# Altium footprint library tr_s6.PcbLib: 40 footprints (part 3 of 3)
Each footprint in its own frame and in the unit in brackets; x right, y up, seen from the top. Pads: shape width x height; smd on the part's side, far side on the other; paste and mask are expansions set on the pad; w line width, h text height; cw(c..) or ccw(c..) is an arc to the next point about the centre after c.
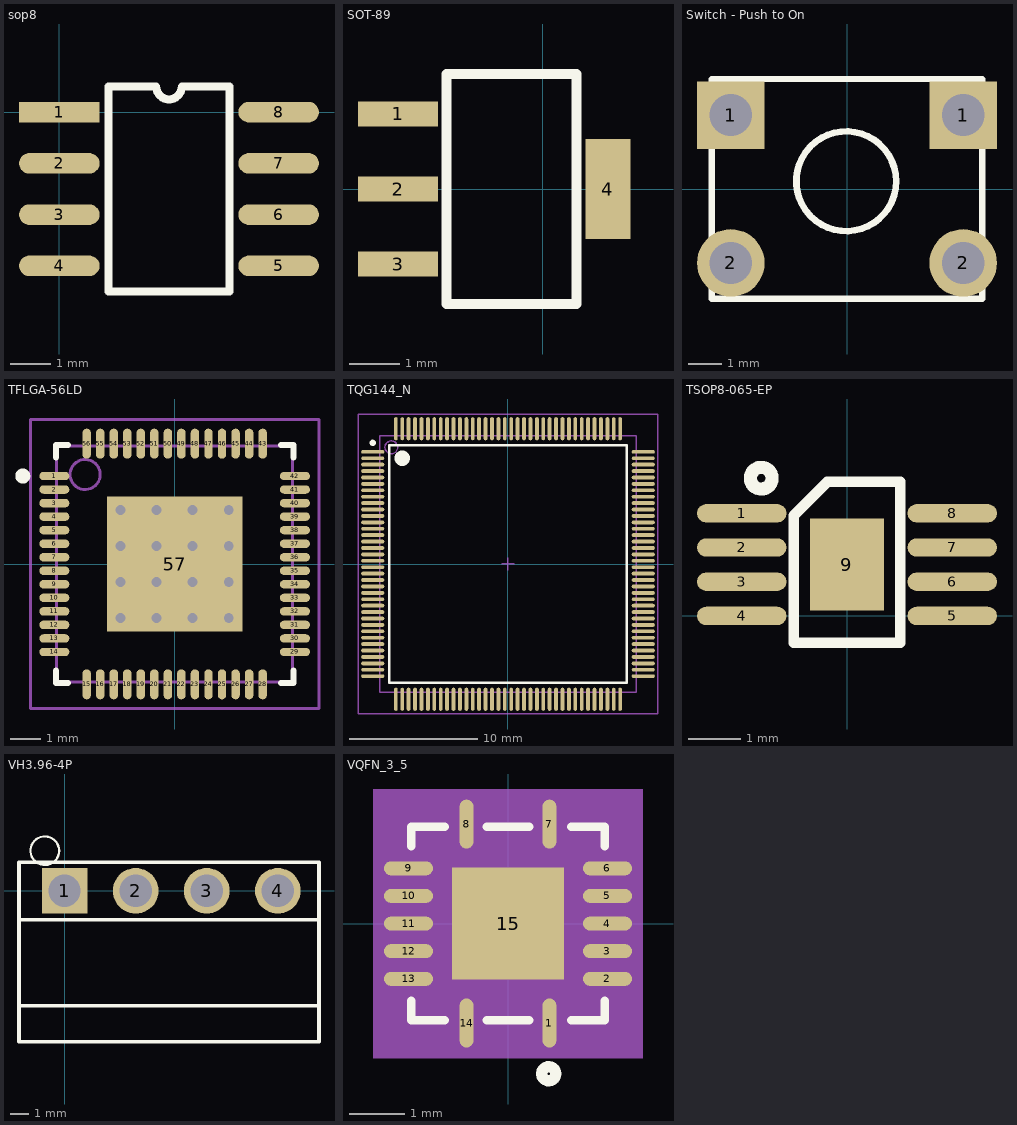
[diagram p2: the footprints below, top view; thin cyan lines are the x and y axes]

## sop8 [mm]
height 22
pads (8):
  rect 2x0.51 smd: 1(0,0)
  oval 2x0.51 smd: 2(0,-1.27) 3(0,-2.54) 4(0,-3.81) 5(5.44,-3.81) 6(5.44,-2.54) 7(5.44,-1.27) 8(5.44,0)
Top Overlay:
  lines w0.2: 1.215,-4.445 1.215,0.635 2.402,0.635 ccw(c2.72,0.635) 3.037,0.635 4.225,0.635 4.225,-4.445 1.215,-4.445

## SOT-89 [mm] "SOT-89,small package of SOT-23"
height 3
pads (4):
  rect 1.6x0.5 smd: 1(-2.889,1.5) 2(-2.889,0) 3(-2.889,-1.5)
  rect 0.9x2 smd: 4(1.3,0)
Top Overlay:
  lines w0.2: -1.924,-2.3 0.676,-2.3 0.676,2.3 -1.924,2.3 -1.924,-2.3

## Switch - Push to On [mil]
height 98.43
pads (4):
  rect 80x80 hole 50: 1(-137.5,87.5) 1(137.5,87.5)
  round 80 hole 50: 2(-137.5,-87.5) 2(137.5,-87.5)
Top Overlay:
  circle w7.87: c-0.89,9.15 r59.06
  lines w7: -160,130 160,130
  lines w7.87: -160,130 -160,-130 160,-130 160,130
3D body "SW3dPS-Touche DTS-6X_V2008.STEP": height 205.04, standoff -120.04, extent -154.9,-121.09 156.9,123

## TFLGA-56LD [mm] "QFN, 56-Leads, Body 7.8x7.8mm (max), Pitch 0.45mm, IPC Medium Density"
height 0.9
pads (57):
  oval 1x0.28 smd: 1(-4,2.925) 2(-4,2.475) 3(-4,2.025) 4(-4,1.575) 5(-4,1.125) 6(-4,0.675) 7(-4,0.225) 8(-4,-0.225) 9(-4,-0.675) 10(-4,-1.125) 11(-4,-1.575) 12(-4,-2.025) 13(-4,-2.475) 14(-4,-2.925) 29(4,-2.925) 30(4,-2.475) 31(4,-2.025) 32(4,-1.575) 33(4,-1.125) 34(4,-0.675) 35(4,-0.225) 36(4,0.225) 37(4,0.675) 38(4,1.125) 39(4,1.575) 40(4,2.025) 41(4,2.475) 42(4,2.925)
  oval 0.28x1 smd: 15(-2.925,-4) 16(-2.475,-4) 17(-2.025,-4) 18(-1.575,-4) 19(-1.125,-4) 20(-0.675,-4) 21(-0.225,-4) 22(0.225,-4) 23(0.675,-4) 24(1.125,-4) 25(1.575,-4) 26(2.025,-4) 27(2.475,-4) 28(2.925,-4) 43(2.925,4) 44(2.475,4) 45(2.025,4) 46(1.575,4) 47(1.125,4) 48(0.675,4) 49(0.225,4) 50(-0.225,4) 51(-0.675,4) 52(-1.125,4) 53(-1.575,4) 54(-2.025,4) 55(-2.475,4) 56(-2.925,4)
  rect 4.5x4.5 smd: 57(0,0)
via -1.8,1.8 diameter 0.66 hole 0.33
via -0.6,1.8 diameter 0.66 hole 0.33
via 0.6,1.8 diameter 0.66 hole 0.33
via 1.8,1.8 diameter 0.66 hole 0.33
via -1.8,0.6 diameter 0.66 hole 0.33
via -0.6,0.6 diameter 0.66 hole 0.33
via 0.6,0.6 diameter 0.66 hole 0.33
via 1.8,0.6 diameter 0.66 hole 0.33
via -1.8,-0.6 diameter 0.66 hole 0.33
via -0.6,-0.6 diameter 0.66 hole 0.33
via 0.6,-0.6 diameter 0.66 hole 0.33
via 1.8,-0.6 diameter 0.66 hole 0.33
via -1.8,-1.8 diameter 0.66 hole 0.33
via -0.6,-1.8 diameter 0.66 hole 0.33
via 0.6,-1.8 diameter 0.66 hole 0.33
via 1.8,-1.8 diameter 0.66 hole 0.33
Top Overlay:
  circle w0.25: c-5.05,2.925 r0.125
  lines w0.2: -3.95,-3.54 -3.95,-3.95 -3.54,-3.95 ; -3.95,3.54 -3.95,3.95 -3.54,3.95 ; 3.54,-3.95 3.95,-3.95 3.95,-3.54 ; 3.54,3.95 3.95,3.95 3.95,3.54
Mechanical 13:
  circle w0.1: c-2.975,2.975 r0.5
  lines w0.1: -3.925,-3.925 -3.925,3.925 3.925,3.925 3.925,-3.925 -3.925,-3.925
Mechanical 15:
  lines w0.1: -0.5,0 0.5,0 ; 0,-0.5 0,0.5 ; -4.8,-4.8 -4.8,4.8 4.8,4.8 4.8,-4.8 -4.8,-4.8
3D body: height 0.9, standoff 0.2, extent -3.925,-3.925 3.925,3.925

## TQG144_N [mm] "Thin QFP, 144-Leads, Body 20x20mm, Pitch 0.5mm, IPC Medium Density"
height 1.6
pads (144):
  oval 1.8x0.3 smd: 1(-10.55,8.75) 2(-10.55,8.25) 3(-10.55,7.75) 4(-10.55,7.25) 5(-10.55,6.75) 6(-10.55,6.25) 7(-10.55,5.75) 8(-10.55,5.25) 9(-10.55,4.75) 10(-10.55,4.25) 11(-10.55,3.75) 12(-10.55,3.25) 13(-10.55,2.75) 14(-10.55,2.25) 15(-10.55,1.75) 16(-10.55,1.25) 17(-10.55,0.75) 18(-10.55,0.25) 19(-10.55,-0.25) 20(-10.55,-0.75) 21(-10.55,-1.25) 22(-10.55,-1.75) 23(-10.55,-2.25) 24(-10.55,-2.75) 25(-10.55,-3.25) 26(-10.55,-3.75) 27(-10.55,-4.25) 28(-10.55,-4.75) 29(-10.55,-5.25) 30(-10.55,-5.75) 31(-10.55,-6.25) 32(-10.55,-6.75) 33(-10.55,-7.25) 34(-10.55,-7.75) 35(-10.55,-8.25) 36(-10.55,-8.75) 73(10.55,-8.75) 74(10.55,-8.25) 75(10.55,-7.75) 76(10.55,-7.25) 77(10.55,-6.75) 78(10.55,-6.25) 79(10.55,-5.75) 80(10.55,-5.25) 81(10.55,-4.75) 82(10.55,-4.25) 83(10.55,-3.75) 84(10.55,-3.25) 85(10.55,-2.75) 86(10.55,-2.25) 87(10.55,-1.75) 88(10.55,-1.25) 89(10.55,-0.75) 90(10.55,-0.25) 91(10.55,0.25) 92(10.55,0.75) 93(10.55,1.25) 94(10.55,1.75) 95(10.55,2.25) 96(10.55,2.75) 97(10.55,3.25) 98(10.55,3.75) 99(10.55,4.25) 100(10.55,4.75) 101(10.55,5.25) 102(10.55,5.75) 103(10.55,6.25) 104(10.55,6.75) 105(10.55,7.25) 106(10.55,7.75) 107(10.55,8.25) 108(10.55,8.75)
  oval 0.3x1.8 smd: 37(-8.75,-10.55) 38(-8.25,-10.55) 39(-7.75,-10.55) 40(-7.25,-10.55) 41(-6.75,-10.55) 42(-6.25,-10.55) 43(-5.75,-10.55) 44(-5.25,-10.55) 45(-4.75,-10.55) 46(-4.25,-10.55) 47(-3.75,-10.55) 48(-3.25,-10.55) 49(-2.75,-10.55) 50(-2.25,-10.55) 51(-1.75,-10.55) 52(-1.25,-10.55) 53(-0.75,-10.55) 54(-0.25,-10.55) 55(0.25,-10.55) 56(0.75,-10.55) 57(1.25,-10.55) 58(1.75,-10.55) 59(2.25,-10.55) 60(2.75,-10.55) 61(3.25,-10.55) 62(3.75,-10.55) 63(4.25,-10.55) 64(4.75,-10.55) 65(5.25,-10.55) 66(5.75,-10.55) 67(6.25,-10.55) 68(6.75,-10.55) 69(7.25,-10.55) 70(7.75,-10.55) 71(8.25,-10.55) 72(8.75,-10.55) 109(8.75,10.55) 110(8.25,10.55) 111(7.75,10.55) 112(7.25,10.55) 113(6.75,10.55) 114(6.25,10.55) 115(5.75,10.55) 116(5.25,10.55) 117(4.75,10.55) 118(4.25,10.55) 119(3.75,10.55) 120(3.25,10.55) 121(2.75,10.55) 122(2.25,10.55) 123(1.75,10.55) 124(1.25,10.55) 125(0.75,10.55) 126(0.25,10.55) 127(-0.25,10.55) 128(-0.75,10.55) 129(-1.25,10.55) 130(-1.75,10.55) 131(-2.25,10.55) 132(-2.75,10.55) 133(-3.25,10.55) 134(-3.75,10.55) 135(-4.25,10.55) 136(-4.75,10.55) 137(-5.25,10.55) 138(-5.75,10.55) 139(-6.25,10.55) 140(-6.75,10.55) 141(-7.25,10.55) 142(-7.75,10.55) 143(-8.25,10.55) 144(-8.75,10.55)
Top Overlay:
  circle w0.6: c-8.25,8.25 r0.3
  circle w0.25: c-10.55,9.45 r0.125
  lines w0.2: -9.25,-9.25 9.25,-9.25 9.25,9.25 -9.25,9.25 -9.25,-9.25
Mechanical 13:
  circle w0.1: c-9.1,9.1 r0.5
  lines w0.1: -10,-10 10,-10 10,10 -10,10 -10,-10
Mechanical 15:
  lines w0.1: -0.5,0 0.5,0 ; 0,-0.5 0,0.5 ; -11.7,-11.7 11.7,-11.7 11.7,11.7 -11.7,11.7 -11.7,-11.7
3D body: height 1.6, standoff 0, extent -10,-10 10,10

## TSOP8-065-EP [mm] "TSOP, 8-Leads, Pitch 0.65mm, IPC Medium Density"
height 1.3
pads (9):
  oval 1.7x0.35 smd: 1(-2,1.95) 2(-2,1.3) 3(-2,0.65) 4(-2,0) 5(2,0) 6(2,0.65) 7(2,1.3) 8(2,1.95)
  rect 1.4x1.75 smd: 9(0,0.975)
Top Overlay:
  circle w0.25: c-1.629,2.616 r0.207
  lines w0.2: -1.016,-0.508 -1.016,1.905 -0.371,2.55 1.016,2.55 1.016,-0.508 -1.016,-0.508

## VH3.96-4P [mm]
height 5.842
pads (4):
  rect 2.54x2.54 hole 1.8: 1(0,0)
  round 2.54 hole 1.8: 2(3.96,0) 3(7.92,0) 4(11.88,0)
Top Overlay:
  circle w0.127: c-1.102,2.235 r0.797
  lines w0.203: -2.54,-6.4 14.173,-6.4 ; -2.54,-1.609 14.173,-1.609 ; -2.54,-8.4 -2.54,1.6 14.173,1.6 14.173,-8.4 -2.54,-8.4

## VQFN_3_5 [mil] "VQFN_3_5"
pads (15):
  oval 10x35 smd: 1(29.53,-70.87) 7(29.53,70.87) 8(-29.53,70.87) 14(-29.53,-70.87)
  oval 35x10 smd: 2(70.87,-39.37) 3(70.87,-19.69) 4(70.87,0) 5(70.87,19.69) 6(70.87,39.37) 9(-70.87,39.37) 10(-70.87,19.69) 11(-70.87,0) 12(-70.87,-19.69) 13(-70.87,-39.37)
  rect 80x80 smd: 15(0,0)
Top Overlay:
  circle w8: c29,-107 r5
  lines w6: -68.9,-55 -68.9,-68.9 -45,-68.9 ; -68.9,55 -68.9,68.9 -45,68.9 ; -15,-68.9 15,-68.9 ; -15,68.9 15,68.9 ; 45,-68.9 68.9,-68.9 68.9,-55 ; 45,68.9 68.9,68.9 68.9,55
Mechanical 10:
  text "3" at 60.87,-19.69 h32
  text "2" at 60.87,-39.37 h32
  text "15" at -20,0 h32
  text "14" at -49.53,-70.87 h32
  text "6" at 60.87,39.37 h32
  text "5" at 60.87,19.69 h32
  text "4" at 60.87,0 h32
  text "1" at 19.53,-70.87 h32
  text "9" at -80.87,39.37 h32
  text "8" at -39.53,70.87 h32
  text "11" at -90.87,0 h32
  text "12" at -90.87,-19.69 h32
  text "13" at -90.87,-39.37 h32
  text "10" at -90.87,19.69 h32
  text "7" at 19.53,70.87 h32
Mechanical 12:
  region: -95.87,-95.87 95.87,-95.87 95.87,95.87 -95.87,95.87
3D body: height 150, standoff 0, extent -95.87,-95.87 95.87,95.87